# EAGLE library part TPS627431YFPR (library lib)
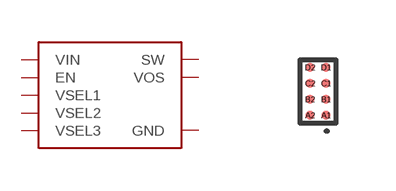
[diagram p4: symbol with the pads of BGA8; footprint BGA8]

Designator prefix -

## TPS627431YFPR  [BGA8]
A1  SW
A2  VIN
B1  EN
B2  GND
C1  VSEL1
C2  VOS
D1  VSEL2
D2  VSEL3

## Footprint BGA8 (pad centres in mm)
smd 0.23 x 0.23: A1 0.2,-0.6; A2 -0.2,-0.6; B1 0.2,-0.2; B2 -0.2,-0.2; C1 0.2,0.2; C2 -0.2,0.2; D1 0.2,0.6; D2 -0.2,0.6